# Altium schematic symbol library ERA-6AEB105V.SchLib: 1 symbol
Pins are listed as number, name and electrical type; pins without a type are passive.

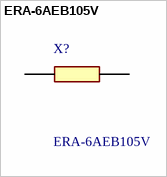
[diagram p0: symbol ERA-6AEB105V]

## ERA-6AEB105V
designator X?
Thin Film Resistors - SMD 0805 1/8W 1.0Mohms; Manufacturer_Name: Panasonic; Geometry.Height: 0.6mm; Mouser Part Number: 667-ERA-6AEB105V; Mouser Price/Stock: https://www.mouser.co.uk/ProductDetail/Panasonic/ERA-6AEB105V?qs=2pXEX08Cf1VGLbL%252By9J2zw%3D%3D; Manufacturer_Part_Number: ERA-6AEB105V; Datasheet Link: https://industrial.panasonic.com/cdbs/www-data/pdf/RDM0000/AOA0000C307.pdf
footprint ERA6AEB101V
pins: 1, 2